# EAGLE library part TPS61200 (library 00_koarl-div)
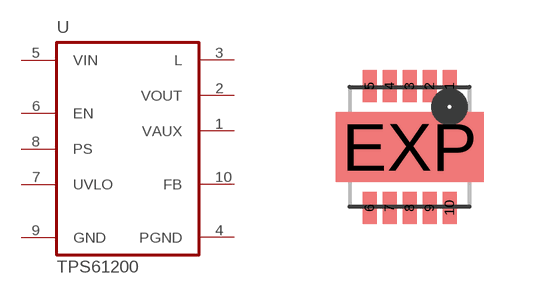
[diagram p11: symbol with the pads of QFN10-3; footprint QFN10-3]

Designator prefix -

## TPS61200  [QFN10-3]
1  VAUX
2  VOUT  out
3  L  in
4  PGND  pwr
5  VIN  in
6  EN  in
7  UVLO  in
8  PS  in
9  GND  pwr
10  FB  in

## Footprint QFN10-3 (pad centres in mm)
10-Lead Plastic Quad Flat Package - 3x3mm Body [DRC]
smd 0.35 x 0.8: 1 1,1.525; 2 0.5,1.525; 3 0,1.525; 4 -0.5,1.525; 5 -1,1.525; 6 -1,-1.525; 7 -0.5,-1.525; 8 0,-1.525; 9 0.5,-1.525; 10 1,-1.525
smd 3.7 x 1.75: EXP 0,0